# Altium schematic symbol library TSB582IYQ2T.SchLib: 1 symbol
Pins are listed as number, name and electrical type; pins without a type are passive.

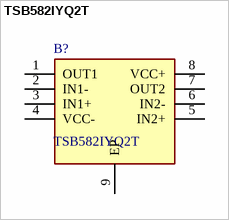
[diagram p0: symbol TSB582IYQ2T]

## TSB582IYQ2T
designator B?
High output current with thermal shutdown and output current limiter, 3.1 MHz, 36 V, BiCMOS dual operational amplifier; Manufacturer_Name: STMicroelectronics; Geometry.Height: 0.8mm; Mouser Part Number: 511-TSB582IYQ2T; Mouser Price/Stock: https://www.mouser.co.uk/ProductDetail/STMicroelectronics/TSB582IYQ2T?qs=Znm5pLBrcAKk3VhMkCWftg%3D%3D; Manufacturer_Part_Number: TSB582IYQ2T; Datasheet Link: https://www.st.com/resource/en/datasheet/tsb582.pdf
footprint SON65P300X300X80-9N-D
pins: 1 OUT1, 2 IN1-, 3 IN1+, 4 VCC-, 5 IN2+, 6 IN2-, 7 OUT2, 8 VCC+, 9 EP